# Altium footprint library C51贴片封装.PcbLib: 2 footprints
Each footprint in its own frame and in the unit in brackets; x right, y up, seen from the top. Pads: shape width x height; smd on the part's side, far side on the other; paste and mask are expansions set on the pad; w line width, h text height; cw(c..) or ccw(c..) is an arc to the next point about the centre after c.
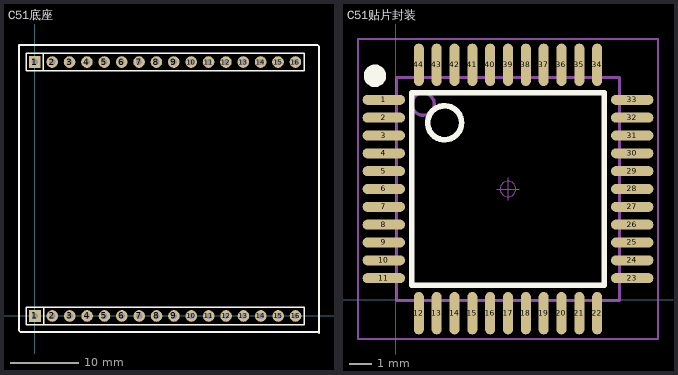
[diagram p0: the footprints below, top view; thin cyan lines are the x and y axes]

## C51底座 [mm]
pads (32):
  rect 1.7x1.7 hole 0.9: 1(-0.025,37.135) 1(0,0)
  round 1.7 hole 0.9: 2(2.515,37.135) 2(2.54,0) 3(5.055,37.135) 3(5.08,0) 4(7.595,37.135) 4(7.62,0) 5(10.135,37.135) 5(10.16,0) 6(12.675,37.135) 6(12.7,0) 7(15.215,37.135) 7(15.24,0) 8(17.755,37.135) 8(17.78,0) 9(20.295,37.135) 9(20.32,0) 10(22.835,37.135) 10(22.86,0) 11(25.375,37.135) 11(25.4,0) 12(27.915,37.135) 12(27.94,0) 13(30.455,37.135) 13(30.48,0) 14(32.995,37.135) 14(33.02,0) 15(35.535,37.135) 15(35.56,0) 16(38.075,37.135) 16(38.1,0)
Top Layer:
  lines w0.254: 0,0.076 0.025,0.051
Top Overlay:
  lines w0.2: 1.225,35.885 1.225,38.385 ; 1.25,-1.25 1.25,1.25 ; -1.295,35.865 -1.295,38.405 0.61,38.405 39.345,38.405 39.345,35.865 -1.295,35.865 ; -1.27,-1.27 39.37,-1.27 39.37,1.27 0.635,1.27 -1.27,1.27 -1.27,-1.27
  lines w0.254: -2.337,-2.159 -2.337,39.624 41.351,39.624 41.529,39.446 41.529,-2.489 41.377,-2.337 -2.159,-2.337 -2.337,-2.159
3D body: height 8.5, standoff -3, extent 23.774,433.807 26.314,436.347

## C51贴片封装 [mm]
pads (44):
  oval 1.9x0.45 smd: 1(-0.533,8.966) 2(-0.533,8.166) 3(-0.533,7.366) 4(-0.533,6.566) 5(-0.533,5.766) 6(-0.533,4.966) 7(-0.533,4.166) 8(-0.533,3.366) 9(-0.533,2.566) 10(-0.533,1.766) 11(-0.533,0.966) 23(10.617,0.966) 24(10.617,1.766) 25(10.617,2.566) 26(10.617,3.366) 27(10.617,4.166) 28(10.617,4.966) 29(10.617,5.766) 30(10.617,6.566) 31(10.617,7.366) 32(10.617,8.166) 33(10.617,8.966)
  oval 0.45x1.9 smd: 12(1.042,-0.608) 13(1.842,-0.608) 14(2.642,-0.608) 15(3.442,-0.608) 16(4.242,-0.608) 17(5.042,-0.608) 18(5.842,-0.608) 19(6.642,-0.608) 20(7.442,-0.608) 21(8.242,-0.608) 22(9.042,-0.608) 34(9.042,10.541) 35(8.242,10.541) 36(7.442,10.541) 37(6.642,10.541) 38(5.842,10.541) 39(5.042,10.541) 40(4.242,10.541) 41(3.442,10.541) 42(2.642,10.541) 43(1.842,10.541) 44(1.042,10.541)
Top Overlay:
  circle w0.254: c2.197,7.938 r0.762
  circle w0.508: c-0.927,10.046 r0.25
  lines w0.254: 0.724,0.648 9.36,0.648 9.36,9.284 0.724,9.284 0.724,0.648
Mechanical 13:
  circle w0.15: c1.232,8.776 r0.5
  lines w0.15: 0.042,-0.034 0.042,9.966 10.042,9.966 10.042,-0.034 0.042,-0.034
Mechanical 15:
  circle w0.05: c5.042,4.966 r0.35
  lines w0.05: 4.542,4.966 5.542,4.966 ; 5.042,4.466 5.042,5.466
  lines w0.1: -1.689,-1.765 -1.689,11.697 11.773,11.697 11.773,-1.765 -1.689,-1.765